# Altium footprint library 1735446-3.PcbLib: 2 footprints
Each footprint in its own frame and in the unit in brackets; x right, y up, seen from the top. Pads: shape width x height; smd on the part's side, far side on the other; paste and mask are expansions set on the pad; w line width, h text height; cw(c..) or ccw(c..) is an arc to the next point about the centre after c.
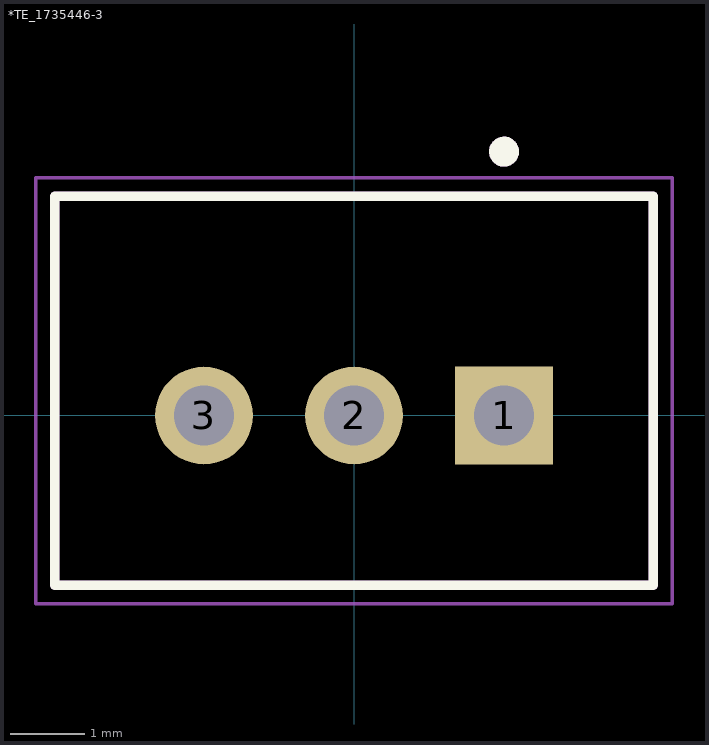
[diagram p0: the footprints below, top view; thin cyan lines are the x and y axes]

## *TE_1735446-3 [mm]
pads (3):
  rect 1.308x1.308 hole 0.8: 1(2.007,0)
  round 1.308 hole 0.8: 2(0,0) 3(-2.007,0)
Top Overlay:
  circle w0.2: c2.007,3.53 r0.1
  lines w0.127: -4.007,-2.27 -4.007,2.93 4.007,2.93 4.007,-2.27 -4.007,-2.27
Mechanical 4:
  circle w0.2: c2.007,3.53 r0.1
  circle w0.2: c2.007,3.53 r0.1
  lines w0.127: -4.007,-2.27 -4.007,2.93 ; -4.007,-2.27 4.007,-2.27 ; -4.007,-2.27 -4.007,2.93 ; -4.007,-2.27 4.007,-2.27 ; -4.007,2.93 4.007,2.93 ; -4.007,2.93 4.007,2.93 ; 4.007,-2.27 4.007,2.93 ; 4.007,-2.27 4.007,2.93
Mechanical 16:
  lines w0.05: -4.257,-2.52 -4.257,3.18 4.257,3.18 4.257,-2.52 -4.257,-2.52

## PCBComponent_1 [mm]